# Altium footprint library Daxxn_LEDs.PcbLib: 9 footprints
Each footprint in its own frame and in the unit in brackets; x right, y up, seen from the top. Pads: shape width x height; smd on the part's side, far side on the other; paste and mask are expansions set on the pad; w line width, h text height; cw(c..) or ccw(c..) is an arc to the next point about the centre after c.
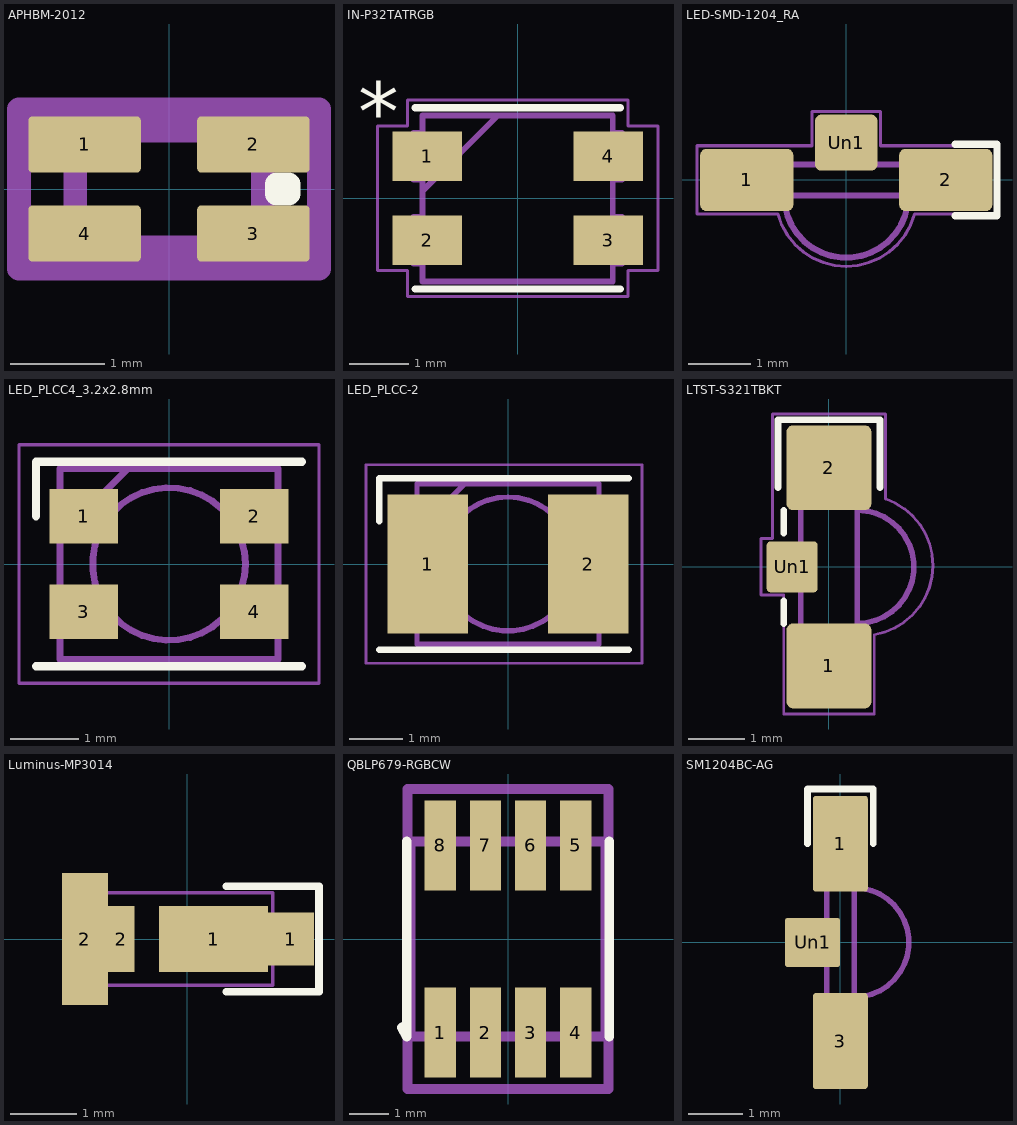
[diagram p0: the footprints below, top view; thin cyan lines are the x and y axes]

## APHBM-2012 [mm]
pads (4):
  rrect15% 1.2x0.6 smd: 1(-0.9,0.475) 2(0.9,0.475) 3(0.9,-0.475) 4(-0.9,-0.475)
F.SilkS:
  lines w0.254: 1.15,-0.05 1.15,0.05 1.275,0.05 1.275,-0.05 1.15,-0.05
F.Paste:
  region: -0.85,0.425 -1.25,0.425 -1.25,0.725 -0.85,0.725
  region: -0.85,-0.725 -1.25,-0.725 -1.25,-0.425 -0.85,-0.425
  region: 1.25,0.425 0.85,0.425 0.85,0.725 1.25,0.725
  region: 1.25,-0.725 0.85,-0.725 0.85,-0.425 1.25,-0.425
  lines w0.254: -1.25,-0.725 -1.25,-0.425 -0.85,-0.425 -0.85,-0.725 -1.25,-0.725 ; -1.25,0.425 -1.25,0.725 -0.85,0.725 -0.85,0.425 -1.25,0.425 ; 0.85,-0.725 0.85,-0.425 1.25,-0.425 1.25,-0.725 0.85,-0.725 ; 0.85,0.425 0.85,0.725 1.25,0.725 1.25,0.425 0.85,0.425
F.CrtYd:
  lines w0.254: -1.6,-0.85 -1.6,0.85 1.6,0.85 1.6,-0.85 -1.6,-0.85
F.Fab:
  lines w0.254: -1,-0.625 -1,0.625 1,0.625 1,-0.625 -1,-0.625
  text "'.Designator'" at -0.829,-0.438 h0.2

## IN-P32TATRGB [mil]
pads (4):
  rect 46x33 smd: 1(-60,27.85) 2(-60,-27.85) 3(60,-27.85) 4(60,27.85)
F.SilkS:
  lines w4.72: -68,-60 68,-60 ; -68,60 68,60
  text "*" at -105.83,37.97 h39.37
F.CrtYd:
  lines w1.97: -93,-47.85 -93,47.85 -73,47.85 -73,65 73,65 73,47.85 93,47.85 93,-47.85 73,-47.85 73,-65 -73,-65 -73,-47.85 -93,-47.85
F.Fab:
  lines w3.94: -63,5 -13,55 ; -69,-43.35 -63,-43.35 -63,-12.35 -69,-12.35 -69,-43.35 ; -69,12.35 -63,12.35 -63,43.35 -69,43.35 -69,12.35 ; -63,-55 -63,55 63,55 63,-55 -63,-55 ; 63,-43.35 69,-43.35 69,-12.35 63,-12.35 63,-43.35 ; 63,12.35 69,12.35 69,43.35 63,43.35 63,12.35

## LED-SMD-1204_RA [mm]
pads (3):
  rrect20% 1.5x1 smd: 1(-1.6,0) 2(1.6,0)
  rrect20% 1x0.9 smd: Un1(0,0.6)
F.SilkS:
  lines w0.12: 1.75,-0.575 2.425,-0.575 2.425,0.575 1.75,0.575
F.CrtYd:
  lines w0.05: -2.4,-0.55 -1.1,-0.55 ccw(c0,-0.25) 1.1,-0.55 2.4,-0.55 2.4,0.55 0.55,0.55 0.55,1.1 -0.55,1.1 -0.55,0.55 -2.4,0.55 -2.4,-0.55
F.Fab:
  lines w0.1: -1,-0.25 ccw(c0,-0.25) 1,-0.25 ; -1.6,-0.25 -1.6,0.25 1.6,0.25 1.6,-0.25 -1.6,-0.25
  text "'.Designator'" at -0.999,-0.773 h0.25

## LED_PLCC4_3.2x2.8mm [mm]
pads (4):
  rect 1x0.8 smd: 1(-1.25,0.7) 2(1.25,0.7) 3(-1.25,-0.7) 4(1.25,-0.7)
F.SilkS:
  lines w0.12: -1.95,-1.5 1.95,-1.5 ; -1.95,0.7 -1.95,1.5 1.95,1.5
F.CrtYd:
  lines w0.05: -2.2,-1.75 -2.2,1.75 2.2,1.75 2.2,-1.75 -2.2,-1.75
F.Fab:
  circle w0.1: c0,0 r1.12
  lines w0.1: -1.6,0.4 -0.6,1.4 ; -1.6,-1.4 -1.6,1.4 1.6,1.4 1.6,-1.4 -1.6,-1.4
  text "'.Designator'" at -2.023,-0.42 h0.5

## LED_PLCC-2 [mm]
pads (2):
  rect 1.5x2.6 smd: 1(-1.5,0) 2(1.5,0)
F.SilkS:
  lines w0.12: -2.4,-1.6 2.25,-1.6 ; -2.4,0.8 -2.4,1.6 2.25,1.6
F.CrtYd:
  lines w0.05: -2.65,-1.85 2.5,-1.85 2.5,1.85 -2.65,1.85 -2.65,-1.85
F.Fab:
  circle w0.1: c0,0 r1.25
  lines w0.1: -1.7,0.6 -0.8,1.5 ; -1.7,-1.5 -1.7,1.5 1.7,1.5 1.7,-1.5 -1.7,-1.5
  text "'.Designator'" at -1.659,-0.376 h0.4

## LTST-S321TBKT [mm]
pads (3):
  rrect15% 1.5x1.5 smd: 1(0,-1.75) 2(0,1.75)
  rrect15% 0.9x0.9 smd: Un1(-0.65,0)
F.SilkS:
  lines w0.12: -0.9,1.4 -0.9,2.6 0.9,2.6 0.9,1.4 ; -0.8,-1 -0.8,-0.6 ; -0.8,0.6 -0.8,1
F.CrtYd:
  lines w0.05: -1.2,-0.5 -1.2,0.5 -1,0.5 -1,2.7 1,2.7 1,1.2 cw(c0.594,0.025) 0.8,-1.2 0.8,-2.6 -0.8,-2.6 -0.8,-0.5 -1.2,-0.5
F.Fab:
  lines w0.1: 0.5,-1 ccw(c0.5,0) 0.5,1 ; -0.5,-1.5 -0.5,1.5 0.5,1.5 0.5,0 0.5,-1.5 -0.5,-1.5
  text "'.Designator'" at 0.188,-0.829 h0.2

## Luminus-MP3014 [mm]
pads (4):
  rect 1.65x1 smd: 1(0.4,0)
  rect 0.7x0.8 smd: 1(1.575,0)
  rect 0.7x2 smd: 2(-1.55,0)
  rect 0.4x1 smd: 2(-1,0)
F.SilkS:
  lines w0.12: 0.6,-0.8 2,-0.8 2,0.8 0.6,0.8
F.CrtYd:
  lines w0.05: -1.3,-0.7 -1.3,0.7 1.3,0.7 1.3,-0.7 -1.3,-0.7
F.Fab:
  text "'.Designator'" at -4.047,2.26 h1

## QBLP679-RGBCW [mm]
pads (8):
  rect 0.8x2.3 smd: 1(-1.74,-2.4) 2(-0.58,-2.4) 3(0.58,-2.4) 4(1.74,-2.4) 5(1.74,2.4) 6(0.58,2.4) 7(-0.58,2.4) 8(-1.74,2.4)
F.SilkS:
  lines w0.254: -2.6,-2.2 -2.725,-2.275 -2.6,-2.5 -2.6,2.5 ; 2.6,-2.5 2.6,2.5
F.CrtYd:
  lines w0.254: -2.575,-3.85 -2.575,3.85 2.575,3.85 2.575,-3.85 -2.575,-3.85
F.Fab:
  lines w0.254: -2.5,-2.5 2.5,-2.5 2.5,2.5 -2.5,2.5 -2.5,-2.5
  text "'.Designator'" at -1.037,0.015 h0.25

## SM1204BC-AG [mm]
pads (3):
  rrect10% 1x1.75 smd: 1(0,1.8) 3(0,-1.8)
  rrect10% 1x0.9 smd: Un1(-0.508,0)
F.SilkS:
  lines w0.12: -0.6,1.8 -0.6,2.8 0.6,2.8 0.6,1.8
F.Fab:
  lines w0.1: 0.25,-1 ccw(c0.25,0) 0.25,1 ; -0.25,-1.6 -0.25,1.6 0.25,1.6 0.25,-1.6 -0.25,-1.6
  text "'.Designator'" at 0.698,-0.999 h0.25